# Altium schematic symbol library 0008-NSA_IR_Sync_Board.SCHLIB: 4 symbols
Pins are listed as number, name and electrical type; pins without a type are passive.

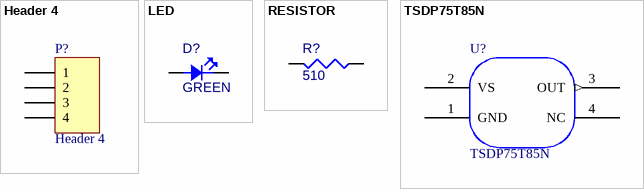
[diagram p0: symbols Header 4 to TSDP75T85N]

## Header 4
designator P?  (no BOM)
Header, 4-Pin; LatestRevisionDate: 17-Jul-2002; LatestRevisionNote: Re-released for DXP Platform.; Publisher: Altium Limited
footprint HDR1X4 (Connector; Header; 4 Position)
signal-integrity model Connector
pins: 1, 2, 3, 4

## LED
designator D?  Color: GREEN  (hidden comment: LED)
LED, GREEN, 0603; Supplier 1: Digi-Key; Supplier Part Number 1: 754-1116-1-ND
footprint LED_GREEN_0603
pins: 1 A, 2 K

## RESISTOR
designator R?, comment 510
RES 510 OHM 1/10W 1% 0402 SMD; Supplier 1: Digi-Key; Supplier Part Number 1: P510LCT-ND
footprint RESISTOR_0603
footprint 0402
footprint RESISTOR_0402
pins: 1, 2

## TSDP75T85N
designator U?
IR Receiver Modules for Remote Control Systems
pins: 1 GND (power), 2 VS (power), 3 OUT (out), 4 NC